# Altium schematic symbol library SnapEDAsch.SchLib: 1 symbol
Pins are listed as number, name and electrical type; pins without a type are passive.

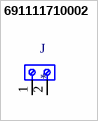
[diagram p0: symbol 691111710002]

## 691111710002
designator J
2 Position Wire to Board Terminal Block Horizontal with Board 0.197 _5.00mm_ Through Hole; MP: 691111710002; MF: Wurth Electronics; Value: *; Availability: Unavailable; Price: None; Package: None; SnapEDA_Link: https://www.snapeda.com/parts/691111710002/Wurth%20Electronics%20Inc./view-part/1195092/?ref=snap
footprint 691111710002
pins: 1, 2